# Altium schematic symbol library flexy-pin.SchLib: 1 symbol
Pins are listed as number, name and electrical type; pins without a type are passive.

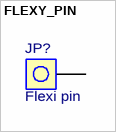
[diagram p0: symbol FLEXY_PIN]

## FLEXY_PIN
designator JP?, comment Flexi pin
Flexible Pin for modules with castellated edges; Snido Part No.: CON.FLEXY PIN - PACK OF 100; Manufacturer: SOLDER PARTY; MFR Part No.: FLEXY PIN - PACK OF 100; Placement: LEADED
footprint FLEXY_PIN
footprint Model Name (Footprint not found)
pins: 1